# Altium footprint library ESP32-C3FH4.PcbLib: 1 footprints
Each footprint in its own frame and in the unit in brackets; x right, y up, seen from the top. Pads: shape width x height; smd on the part's side, far side on the other; paste and mask are expansions set on the pad; w line width, h text height; cw(c..) or ccw(c..) is an arc to the next point about the centre after c.
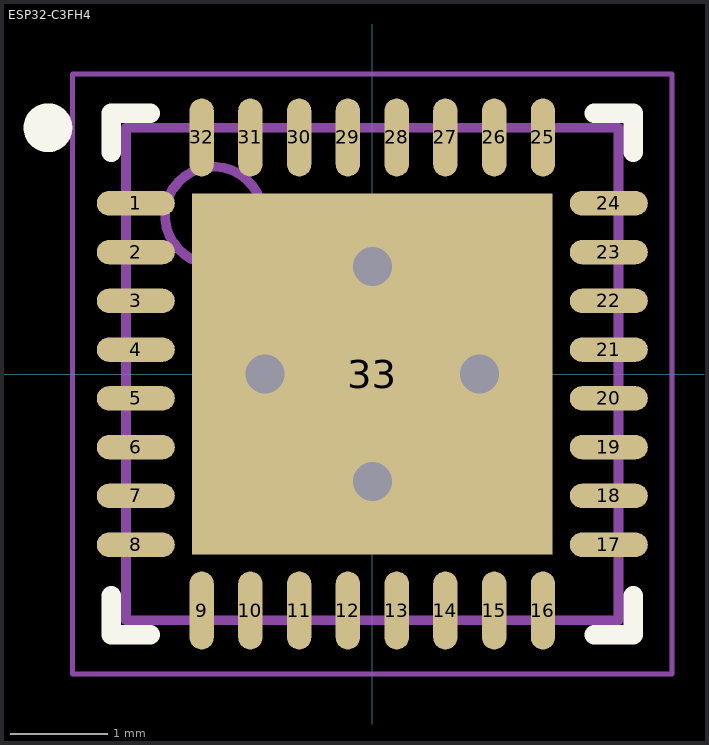
[diagram p0: the footprint, top view; thin cyan lines are the x and y axes]

## ESP32-C3FH4 [mm] "QFN, 32-Leads, Body 5,00x5,00mm, Pitch 0,50mm, Thermal Pad 3,70x3,70mm, IPC Medium Density"
height 0.9
pads (33):
  oval 0.8x0.25 smd: 1(-2.425,1.75) 2(-2.425,1.25) 3(-2.425,0.75) 4(-2.425,0.25) 5(-2.425,-0.25) 6(-2.425,-0.75) 7(-2.425,-1.25) 8(-2.425,-1.75) 17(2.425,-1.75) 18(2.425,-1.25) 19(2.425,-0.75) 20(2.425,-0.25) 21(2.425,0.25) 22(2.425,0.75) 23(2.425,1.25) 24(2.425,1.75)
  oval 0.25x0.8 smd: 9(-1.75,-2.425) 10(-1.25,-2.425) 11(-0.75,-2.425) 12(-0.25,-2.425) 13(0.25,-2.425) 14(0.75,-2.425) 15(1.25,-2.425) 16(1.75,-2.425) 25(1.75,2.425) 26(1.25,2.425) 27(0.75,2.425) 28(0.25,2.425) 29(-0.25,2.425) 30(-0.75,2.425) 31(-1.25,2.425) 32(-1.75,2.425)
  rect 3.7x3.7 smd: 33(0,0)
via 0,1.1 diameter 0.7 hole 0.4
via -1.1,0 diameter 0.7 hole 0.4
via 1.1,0 diameter 0.7 hole 0.4
via 0,-1.1 diameter 0.7 hole 0.4
Top Overlay:
  circle w0.25: c-3.325,2.525 r0.125
  lines w0.2: -2.675,-2.275 -2.675,-2.675 -2.275,-2.675 ; -2.675,2.275 -2.675,2.675 -2.275,2.675 ; 2.275,-2.675 2.675,-2.675 2.675,-2.275 ; 2.275,2.675 2.675,2.675 2.675,2.275
Mechanical 13:
  circle w0.1: c-1.625,1.625 r0.5
  lines w0.1: -2.525,-2.525 -2.525,2.525 2.525,2.525 2.525,-2.525 -2.525,-2.525
Mechanical 15:
  lines w0.05: -3.075,-3.075 -3.075,3.075 3.075,3.075 3.075,-3.075 -3.075,-3.075
  lines w0.1: -0.5,0 0.5,0 ; 0,-0.5 0,0.5
3D body "QFN50P500X500X90_HS-33N.step": height 0.9, standoff 0, extent -2.575,-2.575 2.575,2.575